# EAGLE library part TLE9201SG (library TLE9201SG)
Check availability <https://pricing.snapeda.com/parts/TLE9201SG/Infineon%20Technologies/view-part?ref=eda>
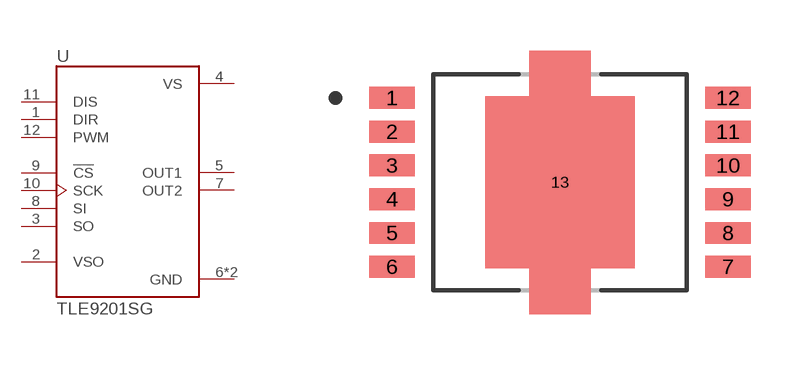
[diagram p0: symbol with the pads of IC_TLE9201SG; footprint IC_TLE9201SG]

Designator prefix U

## TLE9201SG (AVAILABILITY: In Stock; CHECK_PRICES: https://www.snapeda.com/parts/TLE9201SG/Infineon+Technologies/view-part/?ref=eda; DESCRIPTION: IC, 6A, H-bridge with SPI driver, 3.3/5V, DSO12, low standby current | Infineon TLE9201SG; MF: Infineon Technologies; MP: TLE9201SG; PACKAGE: BSOP-12 Infineon; PRICE: None; PURCHASE-URL: https://www.snapeda.com/api/url_track_click_mouser/?unipart_id=526011&manufacturer=Infineon Technologies&part_name=TLE9201SG&search_term=None; SNAPEDA_LINK: https://www.snapeda.com/parts/TLE9201SG/Infineon+Technologies/view-part/?ref=snap)  [IC_TLE9201SG]
1  DIR  in
2  VSO  in
3  SO  out
4  VS  pwr
5  OUT1  out
6  GND  pwr
7  OUT2  out
8  SI  in
9  !CS  in
10  SCK  in
11  DIS  in
12  PWM  in
13  GND  pwr

## Footprint IC_TLE9201SG (pad centres in mm)
smd 1.35 x 0.65: 1 -4.975,2.5; 2 -4.975,1.5; 3 -4.975,0.5; 4 -4.975,-0.5; 5 -4.975,-1.5; 6 -4.975,-2.5; 7 4.975,-2.5; 8 4.975,-1.5; 9 4.975,-0.5; 10 4.975,0.5; 11 4.975,1.5; 12 4.975,2.5
smd 0.5 x 0.5: 13 0,0